# Altium footprint library lib_switches.PcbLib: 1 footprints
Each footprint in its own frame and in the unit in brackets; x right, y up, seen from the top. Pads: shape width x height; smd on the part's side, far side on the other; paste and mask are expansions set on the pad; w line width, h text height; cw(c..) or ccw(c..) is an arc to the next point about the centre after c.
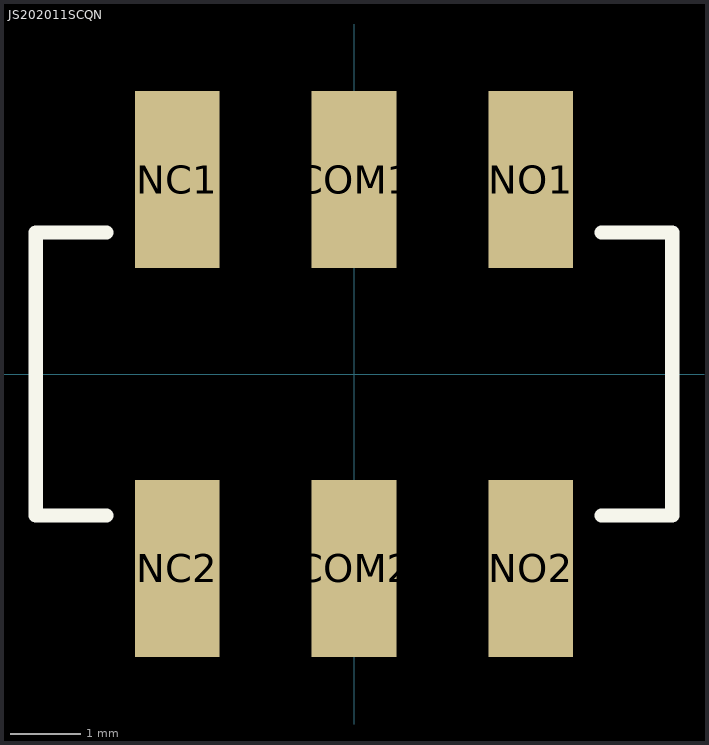
[diagram p0: the footprint, top view; thin cyan lines are the x and y axes]

## JS202011SCQN [mm] "JS202011SCQN DPDT Switch"
pads (6):
  rect 1.2x2.5 smd: COM1(0,2.75) COM2(0,-2.75) NC1(-2.5,2.75) NC2(-2.5,-2.75) NO1(2.5,2.75) NO2(2.5,-2.75)
Top Overlay:
  lines w0.2: -3.5,-2 -4.5,-2 -4.5,-1.75 -4.5,2 -3.5,2 ; 3.5,-2 4.5,-2 4.5,2 3.5,2
3D body "js202011scqn.stp": height 5.47, standoff -0.03, extent -4.5,-3.75 4.5,3.75